# Altium footprint library PCB - CONNECTOR BASIC - HY2.0 - 6P.PcbLib: 1 footprints
Each footprint in its own frame and in the unit in brackets; x right, y up, seen from the top. Pads: shape width x height; smd on the part's side, far side on the other; paste and mask are expansions set on the pad; w line width, h text height; cw(c..) or ccw(c..) is an arc to the next point about the centre after c.
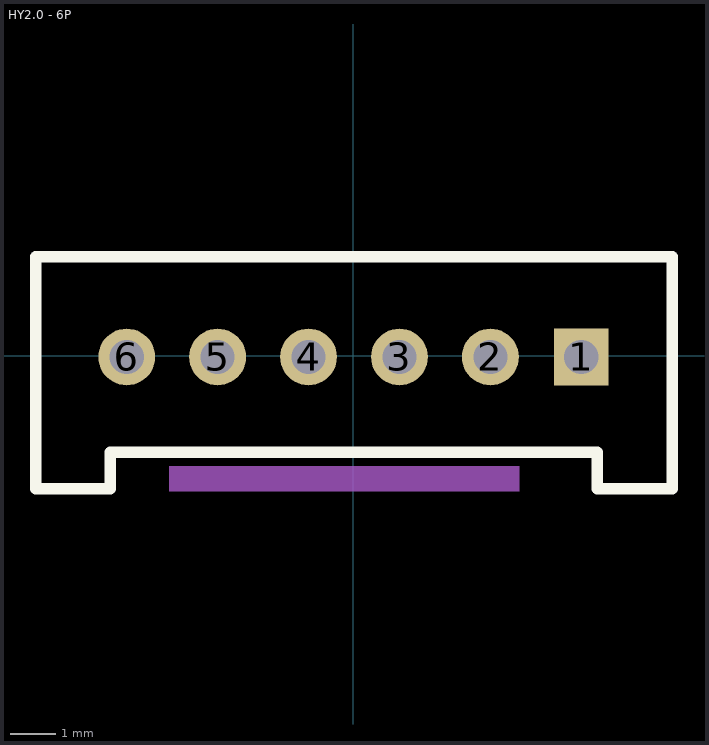
[diagram p0: the footprint, top view; thin cyan lines are the x and y axes]

## HY2.0 - 6P [mm]
pads (6):
  rect 1.2x1.25 hole 0.75 paste+0 mask+0.05: 1(5.015,-0.021)
  round 1.25 hole 0.75 paste+0 mask+0.05: 2(3.015,-0.021) 3(1.015,-0.021) 4(-0.985,-0.021) 5(-2.985,-0.021) 6(-4.985,-0.021)
Top Overlay:
  lines w0.254: 5.365,-2.921 5.365,-2.121 3.765,-2.121 0.265,-2.121 -5.351,-2.121 -5.351,-2.921 -6.985,-2.921 -6.985,2.179 7.015,2.179 7.015,-2.921 5.381,-2.921
Mechanical 15:
  lines w0.127: 5.365,-2.921 5.365,-2.121 3.765,-2.121 0.265,-2.121 -5.351,-2.121 -5.351,-2.921 -6.985,-2.921 -6.985,2.179 7.015,2.179 7.015,-2.921 5.381,-2.921
Mechanical 29:
  region: -4.045,-2.421 3.645,-2.421 3.645,-2.971 -4.045,-2.971
  text "'.Designator'" at 0.254,0.762 h1.52
3D body "User Library-HY2_0 6P.STEP": height 8, standoff -3.2, extent -7,-3.05 7,2.05